# Altium schematic symbol library HGTG12N60A4.Schlib: 1 symbol
Pins are listed as number, name and electrical type; pins without a type are passive.

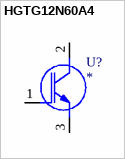
[diagram p0: symbol HGTG12N60A4]

## HGTG12N60A4
designator U?
IGBT 600V 54A
pins: 1 G, 2 C (oc), 3 E (oe)